# Altium schematic symbol library IC_ESD_TPDxE05U06.SchLib: 2 symbols
Pins are listed as number, name and electrical type; pins without a type are passive.

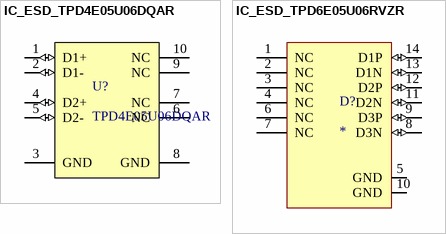
[diagram p0: symbols IC_ESD_TPD4E05U06DQAR to IC_ESD_TPD6E05U06RVZR]

## IC_ESD_TPD4E05U06DQAR
designator U?, comment TPD4E05U06DQAR
Quad 0.5-pF, 5.5-V, Â±12-kV ESD protection diode for USB,  HDMI & High Speed Interfaces 10-USON -40 to 125; Manufacturer_Name: Texas Instruments; CompType: IC; TYPE: TYPE; RefDes: RefDes; Copyright: Copyright (C) 2025 Ultra Librarian. All rights reserved.; Manufacturer_Part_Number: TPD4E05U06DQAR; Application_BuildNumber: *; PartNumber: TPD4E05U06DQAR; PackageReference: DQA0010A; MountType: SMT; RoHS: Y; Manufacturer: Texas Instruments
footprint IC_ESD_TPD4E05U06DQAR
pins: 1 D1+ (io), 2 D1- (io), 3 GND (power), 4 D2+ (io), 5 D2- (io), 6 NC, 7 NC, 8 GND (power), 9 NC, 10 NC

## IC_ESD_TPD6E05U06RVZR
designator D?
6-Channel Ultra low capacitance IEC ESD protection diodes 14-USON -40 to 125; MP: TPD6E05U06RVZR; Price: None; Package: None; Value: *; Availability: Unavailable
footprint IC_ESD_TPD6E05U06DQAR
pins: 1 NC, 2 NC, 3 NC, 4 NC, 5 GND (power), 6 NC, 7 NC, 8 D3N (io), 9 D3P (io), 10 GND (power), 11 D2N (io), 12 D2P (io), 13 D1N (io), 14 D1P (io)